# Altium schematic symbol library qol56-pcb.SchLib: 7 symbols
Pins are listed as number, name and electrical type; pins without a type are passive.

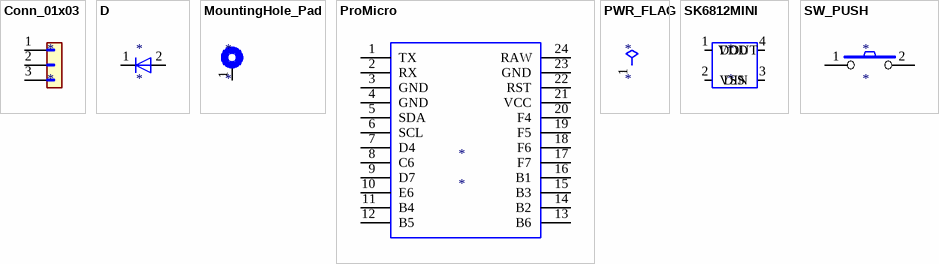
[diagram p0: symbols Conn_01x03 to SW_PUSH]

## Conn_01x03
designator *
pins: 1 Pin_1, 2 Pin_2, 3 Pin_3

## D
designator *
pins: 1 K, 2 A

## MountingHole_Pad
designator *
pins: 1

## ProMicro
designator *
pins: 1 TX, 2 RX, 3 GND, 4 GND, 5 SDA, 6 SCL, 7 D4, 8 C6, 9 D7, 10 E6, 11 B4, 12 B5, 13 B6, 14 B2, 15 B3, 16 B1, 17 F7, 18 F6, 19 F5, 20 F4, 21 VCC, 22 RST, 23 GND, 24 RAW

## PWR_FLAG
designator *  (graphical)
pins: 1 pwr

## SK6812MINI
designator *
pins: 1 DOUT, 2 VSS, 3 DIN, 4 VDD

## SW_PUSH
designator *
pins: 1, 2